# EAGLE library part EMC1812T (library ICs)
Temperature Sensor Digital, Remote 8-WDFN (2x2)
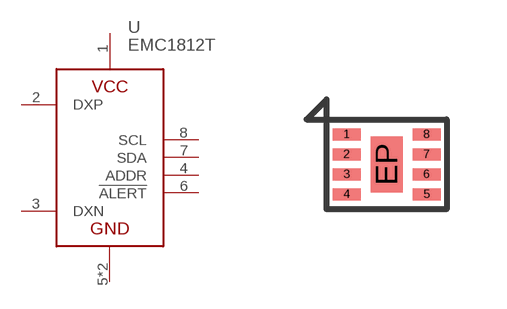
[diagram p296: symbol with the pads of DFN8; footprint DFN8]

Designator prefix U

## EMC1812T (DIGIKEY: EMC1812T-AE/RWCT-ND; HEIGHT: 0.5; PRICE_PER: 0.52; VALUE: EMC1812T)  [DFN8]
1  VCC
2  DXP
3  DXN
4  ADDR
5  GND
6  !ALERT
7  SDA
8  SCL
EP  GND

## Footprint DFN8 (pad centres in mm)
smd 0.7 x 0.3: 1 -1,0.75; 2 -1,0.25; 3 -1,-0.25; 4 -1,-0.75; 5 1,-0.75; 6 1,-0.25; 7 1,0.25; 8 1,0.75
smd 0.8 x 1.4: EP 0,0